# Altium integrated library ECA1CM100I.IntLib: 1 symbol
Pins are listed as number, name and electrical type; pins without a type are passive.

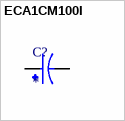
[diagram p0: symbol ECA1CM100I]

## ECA1CM100I
designator C?
10ÂµF 16V Aluminum Electrolytic Capacitors Radial, Can 2000 Hrs @ 85Â°C; MP: ECA1CM100I; MF: Panasonic; SnapEDA_Link: https://www.snapeda.com/parts/ECA1CM100I/Panasonic/view-part/?ref=snap; Check_prices: https://www.snapeda.com/parts/ECA1CM100I/Panasonic/view-part/?ref=eda; Digi-Key_Part_Number: P19513TB-ND; Package: RADIAL-2 Panasonic; Value: *
footprint CAPPRD250W50D500H1100
pins: N, P